# Altium schematic symbol library PCB_Symbols.SchLib: 18 symbols
Pins are listed as number, name and electrical type; pins without a type are passive.

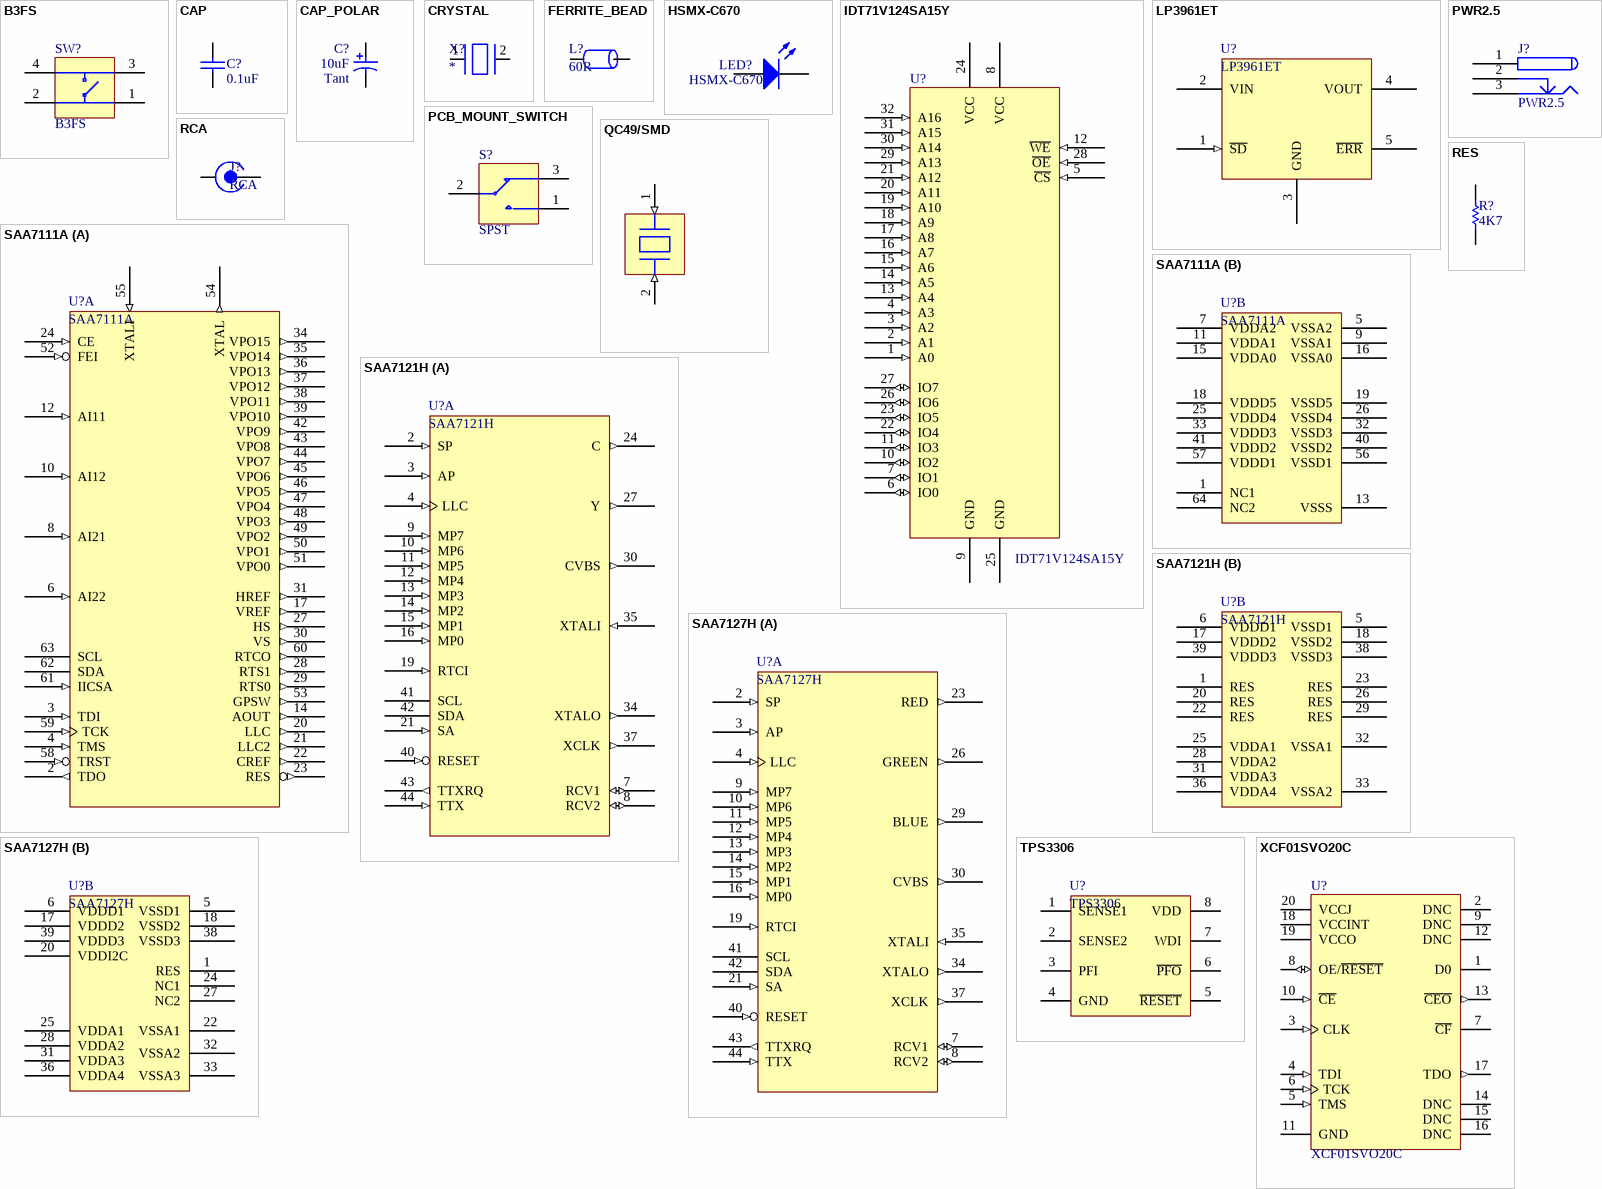
[diagram p0: symbols B3FS to XCF01SVO20C]

## B3FS
designator SW?
SPNA SMD Keyboard Switch; Fitted: True; Comment_1: B3FS
footprint B3FS_SWITCH
pins: 1, 2, 3, 4

## CAP
designator C?, comment 0.1uF
Capacitor; Fitted: True
footprint CC1005-0402 (0402 Capacitor)
footprint CC1608-0603 (0603 Capacitor)
footprint CC2012-0805
footprint CC3216-1206 (1206 Capacitor)
footprint CC3225-1210 (1210 Capacitor)
pins: 1, 2

## CAP_POLAR
designator C?, comment 10uF  Capacitor Type: Tant
Polar Capacitor; Fitted: True
footprint MCCT-A (3216 Polar Capacitor)
footprint MCCT-B
footprint MCCT-C (6032 Polar Capacitor)
footprint MCCT-D (7343 Polar Capacitor)
footprint RB8/3.5
pins: 1, 2

## CRYSTAL
designator X?
pins: 1, 2

## FERRITE_BEAD
designator L?, comment 60R
BMB Series Ferrite Chip Bead
footprint CC2012-0805
pins: 1, 2

## HSMX-C670
designator LED?
Typical RED GaAs SMD LED Agilent make; Manufacturer: Generic Components; Class I: Optoelectronic; Fitted: True; Published: 8-Jun-2000; Revision: July-2002: Re-released for DXP Platform.; Publisher: Altium Limited; Class II: LED
footprint SMD _LED
simulation model LED1 (Diode)
pins: 1 A, 2 K

## IDT71V124SA15Y
designator U?
128K x 8 bit Fast Static RAM; Fitted: True; Supplier: IDT
footprint SO-J32
pins: 1 A0 (in) "Address 0", 2 A1 (in) "Address 1", 3 A2 (in) "Address 3", 4 A3 (in) "Address 3", 5 ~{CS} (in) "Chip Select", 6 IO0 (io) "Data 0", 7 IO1 (io) "Data 1", 8 VCC (power) "Pos Supply", 9 GND (power), 10 IO2 (io) "Data 2", 11 IO3 (io) "Data 3", 12 ~{WE} (in) "Write Enable", 13 A4 (in) "Address 4", 14 A5 (in) "Address 5", 15 A6 (in) "Address 6", 16 A7 (in) "Address 7", 17 A8 (in) "Address 8", 18 A9 (in) "Address 9", 19 A10 (in) "Address 10", 20 A11 (in) "Address 11", 21 A12 (in) "Address 12", 22 IO4 (io) "Data 4", 23 IO5 (io) "Data 5", 24 VCC (power) "Pos Supply", 25 GND (power), 26 IO6 (io) "Data 6", 27 IO7 (io) "Data 7", 28 ~{OE} (in) "Output Enable", 29 A13 (in) "Address 13", 30 A14 (in) "Address 14", 31 A15 (in) "Address 15", 32 A16 (in) "Address 16"

## LP3961ET
designator U?
800mA Fast UL Dropout Regulator
pins: 1 ~{SD} (in), 2 VIN (power), 3 GND (power), 4 VOUT (power), 5 ~{ERR} (oc)

## PCB_MOUNT_SWITCH
designator S?, comment SPST
SPDT Subminiature Toggle Switch; Fitted: True
footprint PCB_SWITCH
pins: 1, 2, 3

## PWR2.5
designator J?
Low Voltage Power Supply Sonnector; Fitted: True
footprint PWR2.5
pins: 1 (power), 2 (power), 3 (power)

## QC49/SMD
designator CR?
SMD Crystal 20MHz HY-Q; Fitted: True; C-MAC Watch Crystal: *; Farnel/RS-316-0312: *; 4.13$: *; C-MAC/FOX: *; Future: *
footprint QC49/SMD (SMD Crystal)
footprint QC49/SMD (SMD Crystal)
pins: 1 (in), 2 (in)

## RCA
designator J?
RCA Socket
footprint RCA_MR551L (Schurter RCA PCB Socket (Farnell 152-396))
pins: 1, 2

## RES
designator R?, comment 4K7
Resistor; Fitted: True
footprint CC1005-0402 (0402 Resistor)
footprint CC1310-0504 (0504 Resistor)
footprint CC1608-0603 (0603 Resistor)
footprint CC2012-0805
footprint CC3216-1206 (1206 Resistor)
footprint CC3225-1210 (1210 Resistor)
footprint CC4513-1805 (1805 Resistor)
footprint CC2512 (2512 Resistor)
footprint CC3225-0805
footprint CC1202-0805
pins: 1, 2

## SAA7111A
designator U?
Philips Enhanced Video Input Processor
part A pins: 2 TDO (out), 3 TDI (in), 4 TMS (in), 6 AI22 (in), 8 AI21 (in), 10 AI12 (in), 12 AI11 (in), 14 AOUT (out), 17 VREF (out), 20 LLC (out), 21 LLC2 (out), 22 CREF (out), 23 RES (out), 24 CE (in), 27 HS (out), 28 RTS1 (out), 29 RTS0 (out), 30 VS (out), 31 HREF (out), 34 VPO15 (out), 35 VPO14 (out), 36 VPO13 (out), 37 VPO12 (out), 38 VPO11 (out), 39 VPO10 (out), 42 VPO9 (out), 43 VPO8 (out), 44 VPO7 (out), 45 VPO6 (out), 46 VPO5 (out), 47 VPO4 (out), 48 VPO3 (out), 49 VPO2 (out), 50 VPO1 (out), 51 VPO0 (out), 52 FEI (in), 53 GPSW (out), 54 XTAL (out), 55 XTALI (in), 58 TRST (in), 59 TCK (in), 60 RTCO (out), 61 IICSA (in), 62 SDA (oc), 63 SCL (oc)
part B pins: 1 NC1, 5 VSSA2 (power), 7 VDDA2 (power), 9 VSSA1 (power), 11 VDDA1 (power), 13 VSSS (power), 15 VDDA0 (power), 16 VSSA0 (power), 18 VDDD5 (power), 19 VSSD5 (power), 25 VDDD4 (power), 26 VSSD4 (power), 32 VSSD3 (power), 33 VDDD3 (power), 40 VSSD2 (power), 41 VDDD2 (power), 56 VSSD1 (power), 57 VDDD1 (power), 64 NC2

## SAA7121H
designator U?
Philips Digital Video Encoder
part A pins: 2 SP (in), 3 AP (in), 4 LLC (in), 7 RCV1 (io), 8 RCV2 (io), 9 MP7 (in), 10 MP6 (in), 11 MP5 (in), 12 MP4 (in), 13 MP3 (in), 14 MP2 (in), 15 MP1 (in), 16 MP0 (in), 19 RTCI (in), 21 SA (in), 24 C (out), 27 Y (out), 30 CVBS (out), 34 XTALO (out), 35 XTALI (in), 37 XCLK (out), 40 RESET (in), 41 SCL (oc), 42 SDA (oc), 43 TTXRQ (out), 44 TTX (in)
part B pins: 1 RES, 5 VSSD1 (power), 6 VDDD1 (power), 17 VDDD2 (power), 18 VSSD2 (power), 20 RES, 22 RES, 23 RES, 25 VDDA1 (power), 26 RES, 28 VDDA2 (power), 29 RES, 31 VDDA3 (power), 32 VSSA1 (power), 33 VSSA2 (power), 36 VDDA4 (power), 38 VSSD3 (power), 39 VDDD3 (power)

## SAA7127H
designator U?
Philips Digital Video Encoder
footprint QFP10X10_44
part A pins: 2 SP (in), 3 AP (in), 4 LLC (in), 7 RCV1 (io), 8 RCV2 (io), 9 MP7 (in), 10 MP6 (in), 11 MP5 (in), 12 MP4 (in), 13 MP3 (in), 14 MP2 (in), 15 MP1 (in), 16 MP0 (in), 19 RTCI (in), 21 SA (in), 23 RED (out), 26 GREEN (out), 29 BLUE (out), 30 CVBS (out), 34 XTALO (out), 35 XTALI (in), 37 XCLK (out), 40 RESET (in), 41 SCL (oc), 42 SDA (oc), 43 TTXRQ (out), 44 TTX (in)
part B pins: 1 RES, 5 VSSD1 (power), 6 VDDD1 (power), 17 VDDD2 (power), 18 VSSD2 (power), 20 VDDI2C (power), 22 VSSA1 (power), 24 NC1, 25 VDDA1 (power), 27 NC2, 28 VDDA2 (power), 31 VDDA3 (power), 32 VSSA2 (power), 33 VSSA3 (power), 36 VDDA4 (power), 38 VSSD3 (power), 39 VDDD3 (power)

## TPS3306
designator U?
TI Dual Voltage MPU Supervisory Circuit
footprint SOIC8
pins: 1 SENSE1, 2 SENSE2, 3 PFI, 4 GND (power), 5 ~{RESET} (oc), 6 ~{PFO} (oc), 7 WDI, 8 VDD (power)

## XCF01SVO20C
designator U?
XCF00S Series, Platform Flash In-System Programmable Configuration 3.3V PROM, 1-Megabit, Commercial Grade; Manufacturer: Xilinx; Package Information: Latest Revision: ver1.0, May-2003; Class I: Memory; Code - JEDEC: MO-153-AC; Fitted: True; Published: 20-Aug-2003; Datasheet: Latest Revision: ver1.1, June-2003; Package Reference: VO20; Publisher: Altium Limited; Class II: PROM
footprint VO20
pins: 1 D0 (hiz) "Serial Data Output, for configuring an FPGA in serial mode.", 2 DNC "Leave Unconnected.", 3 CLK (in) "Configuration Clock Input.", 4 TDI (in) "JTAG Serial Data Input.", 5 TMS (in) "JTAG Mode Select Input.", 6 TCK (in) "JTAG Test Clock Input.", 7 ~{CF} (oc) "Configuration Pulse (Open-Drain Output).", 8 OE/~{RESET} (io) "Output Enable/Reset (Open-Drain I/O).", 9 DNC "Leave Unconnected.", 10 ~{CE} (in) "Chip Enable Input.", 11 GND (power) "Ground", 12 DNC "Leave Unconnected.", 13 ~{CEO} (out) "Chip Enable Output, connects to the CE input of the next PROM in the chain.", 14 DNC "Leave Unconnected.", 15 DNC "Leave Unconnected.", 16 DNC "Leave Unconnected.", 17 TDO (out) "JTAG Serial Data Output.", 18 VCCINT (power) "+3.3V Supply for internal logic.", 19 VCCO (power) "+3.3V, 2.5V, or 1.8V I/O Supply.", 20 VCCJ (power) "+3.3V or 2.5V JTAG Signals I/O Supply."